# EAGLE library part 00SPEEDY_EE25/13/7_THT_H_13PIN (library Wurth Electronics Midcom Inc V1-0)
Package Style: Speedy EE25/13/7 Mounting: THT Pins: 14 pins Bobbin: 070-5644 Best pinouts for production vary per application. Please contact Wurth Electronics Midcom, Inc. for assistance with your custom design. Website: Wurth Electronics Midcom <http://www.we-online.com/midcom> Contact us Wurth Electronics Midcom, Inc. 121 Airport Dr. Watertown, SD 57201 Phone: (605) 886-4385 Fax: (605) 886-4486 E-Mail: midcom@we-online.com
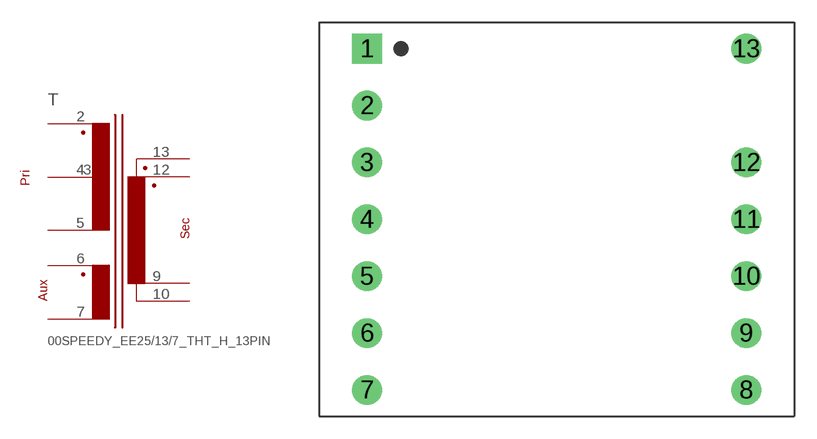
[diagram p111: symbol with the pads of 00SPEEDY_EE25/13/7_THT_H_13PIN; footprint 00SPEEDY_EE25/13/7_THT_H_13PIN]

Designator prefix T

## 00SPEEDY_EE25/13/7_THT_H_13PIN  [00SPEEDY_EE25/13/7_THT_H_13PIN]
2  1  pas
3  2  pas
4  3  pas
5  4  pas
6  5  pas
7  6  pas
9  10  pas
10  8  pas
12  9  pas
13  7  pas

## Footprint 00SPEEDY_EE25/13/7_THT_H_13PIN (pad centres in mm)
Package Style: Speedy EE25/13/7 Mounting: THT Pins: 14 pins Bobbin: 070-5644
drill 1.321 square: 1 -12.7,11.43
drill 1.321 round: 2 -12.7,7.62; 3 -12.7,3.81; 4 -12.7,0; 5 -12.7,-3.81; 6 -12.7,-7.62; 7 -12.7,-11.43; 8 12.7,-11.43; 9 12.7,-7.62; 10 12.7,-3.81; 11 12.7,0; 12 12.7,3.81; 13 12.7,11.43